# Altium integrated library TI Data Converters Analog to Digital Converter.IntLib: 2198 symbols (part 32 of 164)
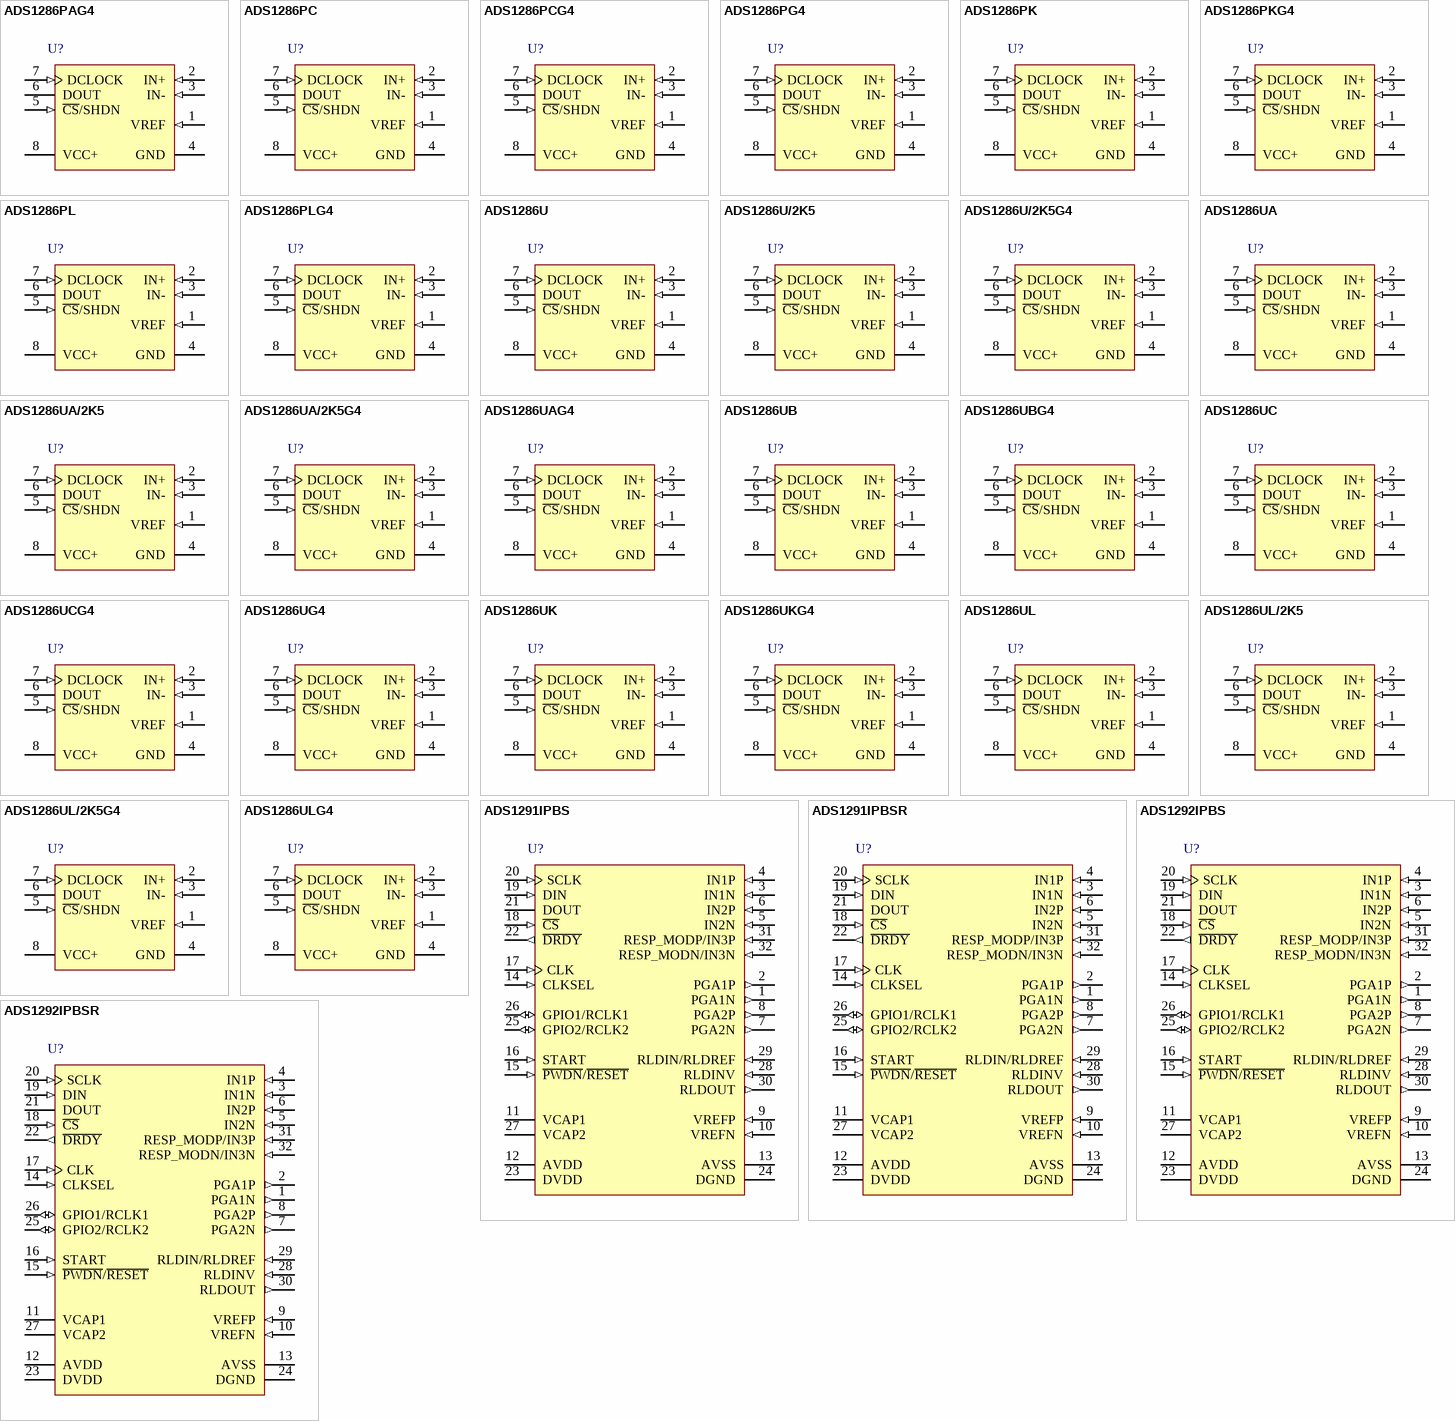
[diagram p157: symbols ADS1286PAG4 to ADS1292IPBSR]

## ADS1286UL/2K5
designator U?
12-Bit Micro Power Sampling ADC, -40 to 85 degC, 8-pin SOIC (D8), Green (RoHS & no Sb/Br); Manufacturer: Texas Instruments; PartNumber: ADS1286UL/2K5; # Input Channels: 1; Analog Voltage AV/DD(Max)(V): 5.25; Analog Voltage AV/DD(Min)(V): 4.5; Architecture: SAR; Interface: Serial SPI; Resolution(Bits): 12; Sample Rate (max)(SPS): 20k; SFDR(dB): 90; SINAD(dB): 72; SubFamily: Precision ADC (<=10MSPS); DatasheetVersion: SBAS053; PackageVersion: 4040047-3/M, 06/2011; PackageReference: D8; PackageDescription: 8-Pin Plastic Small Outline, Body 4.9 x 3.9 mm, Pitch 1.27 mm; Supplier 1: Digi-Key; Supplier Part Number 1: ADS8505IDBR-ND; Digital Supply(Max)(V): 5.25; Digital Supply(Min)(V): 4.5; Eco-Plan: Green (RoHS & no Sb/Br); INL(Max)(+/-LSB): 1; Mounting Technology: Surface Mount; Code_JEDEC: MS-012; ComponentLink1Description: Manufacturer URL; ComponentLink1URL: http://www.ti.com/; ComponentLink2Description: Datasheet; ComponentLink2URL: http://www.ti.com/general/docs/lit/getliterature.tsp?genericPartNumber=ADS1286&fileType=pdf; ComponentLink3Description: Package Specification; ComponentLink3URL: http://www.ti.com/litv/pdf/msoi002j
footprint TI-D8_N (SOIC, 8-Leads, Body 4.9x3.9mm, Pitch 1.27mm, IPC Medium Density)
footprint TI-D8_L (SOIC, 8-Leads, Body 4.9x3.9mm, Pitch 1.27mm, IPC High Density)
footprint TI-D8_M (SOIC, 8-Leads, Body 4.9x3.9mm, Pitch 1.27mm, IPC Low Density)
pins: 1 VREF (in) "Reference input", 2 IN+ (in) "Noninverting input", 3 IN- (in) "Inverting input. Connect to ground or to remote ground sense point.", 4 GND (power) "Ground", 5 ~{CS}/SHDN (in) "Chip select when low; Shutdown mode when high.", 6 DOUT (hiz) "The serial output data word  is comprised of 12 bits of data. In operation, the data are valid on the falling edge of DCLOCK. The second clock pulse after the falling edge of C\S\ enables the serial output. After one null (See Datasheet)", 7 DCLOCK (in) "Data clock synchronizes the serial data transfer and determines conversion speed.", 8 VCC+ (power) "Power supply"

## ADS1286UL/2K5G4
designator U?
12-Bit Micro Power Sampling ADC, -40 to 85 degC, 8-pin SOIC (D8), Green (RoHS & no Sb/Br); Manufacturer: Texas Instruments; PartNumber: ADS1286UL/2K5G4; # Input Channels: 1; Analog Voltage AV/DD(Max)(V): 5.25; Analog Voltage AV/DD(Min)(V): 4.5; Architecture: SAR; Interface: Serial SPI; Resolution(Bits): 12; Sample Rate (max)(SPS): 20k; SFDR(dB): 90; SINAD(dB): 72; SubFamily: Precision ADC (<=10MSPS); DatasheetVersion: SBAS053; PackageVersion: 4040047-3/M, 06/2011; PackageReference: D8; PackageDescription: 8-Pin Plastic Small Outline, Body 4.9 x 3.9 mm, Pitch 1.27 mm; Supplier 1: Digi-Key; Supplier Part Number 1: ADS8505IDBRG4-ND; Digital Supply(Max)(V): 5.25; Digital Supply(Min)(V): 4.5; Eco-Plan: Green (RoHS & no Sb/Br); INL(Max)(+/-LSB): 1; Mounting Technology: Surface Mount; Code_JEDEC: MS-012; ComponentLink1Description: Manufacturer URL; ComponentLink1URL: http://www.ti.com/; ComponentLink2Description: Datasheet; ComponentLink2URL: http://www.ti.com/general/docs/lit/getliterature.tsp?genericPartNumber=ADS1286&fileType=pdf; ComponentLink3Description: Package Specification; ComponentLink3URL: http://www.ti.com/litv/pdf/msoi002j
footprint TI-D8_N (SOIC, 8-Leads, Body 4.9x3.9mm, Pitch 1.27mm, IPC Medium Density)
footprint TI-D8_L (SOIC, 8-Leads, Body 4.9x3.9mm, Pitch 1.27mm, IPC High Density)
footprint TI-D8_M (SOIC, 8-Leads, Body 4.9x3.9mm, Pitch 1.27mm, IPC Low Density)
pins: 1 VREF (in) "Reference input", 2 IN+ (in) "Noninverting input", 3 IN- (in) "Inverting input. Connect to ground or to remote ground sense point.", 4 GND (power) "Ground", 5 ~{CS}/SHDN (in) "Chip select when low; Shutdown mode when high.", 6 DOUT (hiz) "The serial output data word  is comprised of 12 bits of data. In operation, the data are valid on the falling edge of DCLOCK. The second clock pulse after the falling edge of C\S\ enables the serial output. After one null (See Datasheet)", 7 DCLOCK (in) "Data clock synchronizes the serial data transfer and determines conversion speed.", 8 VCC+ (power) "Power supply"

## ADS1286ULG4
designator U?
12-Bit Micro Power Sampling ADC, -40 to 85 degC, 8-pin SOIC (D8), Green (RoHS & no Sb/Br); Manufacturer: Texas Instruments; PartNumber: ADS1286ULG4; # Input Channels: 1; Analog Voltage AV/DD(Max)(V): 5.25; Analog Voltage AV/DD(Min)(V): 4.5; Architecture: SAR; Interface: Serial SPI; Resolution(Bits): 12; Sample Rate (max)(SPS): 20k; SFDR(dB): 90; SINAD(dB): 72; SubFamily: Precision ADC (<=10MSPS); DatasheetVersion: SBAS053; PackageVersion: 4040047-3/M, 06/2011; PackageReference: D8; PackageDescription: 8-Pin Plastic Small Outline, Body 4.9 x 3.9 mm, Pitch 1.27 mm; Supplier 1: Digi-Key; Supplier Part Number 1: 296-18084-5-ND; Digital Supply(Max)(V): 5.25; Digital Supply(Min)(V): 4.5; Eco-Plan: Green (RoHS & no Sb/Br); INL(Max)(+/-LSB): 1; Mounting Technology: Surface Mount; Code_JEDEC: MS-012; ComponentLink1Description: Manufacturer URL; ComponentLink1URL: http://www.ti.com/; ComponentLink2Description: Datasheet; ComponentLink2URL: http://www.ti.com/general/docs/lit/getliterature.tsp?genericPartNumber=ADS1286&fileType=pdf; ComponentLink3Description: Package Specification; ComponentLink3URL: http://www.ti.com/litv/pdf/msoi002j
footprint TI-D8_N (SOIC, 8-Leads, Body 4.9x3.9mm, Pitch 1.27mm, IPC Medium Density)
footprint TI-D8_L (SOIC, 8-Leads, Body 4.9x3.9mm, Pitch 1.27mm, IPC High Density)
footprint TI-D8_M (SOIC, 8-Leads, Body 4.9x3.9mm, Pitch 1.27mm, IPC Low Density)
pins: 1 VREF (in) "Reference input", 2 IN+ (in) "Noninverting input", 3 IN- (in) "Inverting input. Connect to ground or to remote ground sense point.", 4 GND (power) "Ground", 5 ~{CS}/SHDN (in) "Chip select when low; Shutdown mode when high.", 6 DOUT (hiz) "The serial output data word  is comprised of 12 bits of data. In operation, the data are valid on the falling edge of DCLOCK. The second clock pulse after the falling edge of C\S\ enables the serial output. After one null (See Datasheet)", 7 DCLOCK (in) "Data clock synchronizes the serial data transfer and determines conversion speed.", 8 VCC+ (power) "Power supply"

## ADS1291IPBS
designator U?
Complete Low Power Integrated Analog Front End for ECG Application, -40 to 85 degC, 32-pin QFP (PBS32), Green (RoHS & no Sb/Br); Manufacturer: Texas Instruments; PartNumber: ADS1291IPBS; # Input Channels: 1; Analog Voltage AV/DD(Max)(V): 5.25; Analog Voltage AV/DD(Min)(V): 2.7; Architecture: Delta-Sigma; Digital Supply(Max)(V): 3.6; Digital Supply(Min)(V): 1.7; Interface: Serial SPI; Resolution(Bits): 24; SNR(dB): 107; SubFamily: Precision ADC (<=10MSPS); DatasheetVersion: SBAS502B; PackageVersion: 4087735/B, 07/2005; PackageReference: PBS32; PackageDescription: 32-Pin Plastic Flat Pack, Body 5 X 5 mm, Pitch 0.5 mm; Supplier 1: Digi-Key; Supplier Part Number 1: ADS8509IBDBG4-ND; Eco-Plan: Green (RoHS & no Sb/Br); Mounting Technology: Surface Mount; Code_JEDEC: MS-026; ComponentLink1Description: Manufacturer URL; ComponentLink1URL: http://www.ti.com/; ComponentLink2Description: Datasheet; ComponentLink2URL: http://www.ti.com/general/docs/lit/getliterature.tsp?genericPartNumber=ADS1291&fileType=pdf; ComponentLink3Description: Package Specification; ComponentLink3URL: http://www.ti.com/lit/ml/mpqf027a/mpqf027a.pdf
footprint TI-PBS32_N (QFP, 32-Leads, Body 5x5mm, Pitch 0.5mm, IPC Medium Density)
footprint TI-PBS32_L (QFP, 32-Leads, Body 5x5mm, Pitch 0.5mm, IPC High Density)
footprint TI-PBS32_M (QFP, 32-Leads, Body 5x5mm, Pitch 0.5mm, IPC Low Density)
pins: 1 PGA1N (out) "PGA1 inverting output", 2 PGA1P (out) "PGA1 noninverting output", 3 IN1N (in) "Differential analog negative input 1", 4 IN1P (in) "Differential analog positive input 1", 5 IN2N (in) "Differential analog negative input 2", 6 IN2P (in) "Differential analog positive input 2", 7 PGA2N (out) "PGA2 inverting output", 8 PGA2P (out) "PGA2 noninverting output", 9 VREFP (in) "Positive reference voltage", 10 VREFN (in) "Negative reference voltage; must be connected to AVSS", 11 VCAP1 "Analog bypass capacitor", 12 AVDD (power) "Analog supply", 13 AVSS (power) "Analog ground", 14 CLKSEL (in) "Master clock select", 15 ~{PWDN}/~{RESET} (in) "Power-down or system reset; active low", 16 START (in) "Start conversion", 17 CLK (in) "Master clock input", 18 ~{CS} (in) "Chip select", 19 DIN (in) "SPI data in", 20 SCLK (in) "SPI clock", 21 DOUT (hiz) "SPI data out", 22 ~{DRDY} (out) "Data ready; active low", 23 DVDD (power) "Digital power supply", 24 DGND (power) "Digital ground", 25 GPIO2/RCLK2 (io) "General-purpose I/O 2 or resp clock 2 (ADS1292R)", 26 GPIO1/RCLK1 (io) "General-purpose I/O 1 or resp clock 1 (ADS1292R)", 27 VCAP2 "Analog bypass capacitor", 28 RLDINV (in) "Right leg drive inverting input; connect to AVDD if not used", 29 RLDIN/RLDREF (in) "Right leg drive input to MUX or RLD amplifier noninverting input; connect to AVDD if not used", 30 RLDOUT (out) "Right leg drive output", 31 RESP_MODP/IN3P (in) "P-side respiration excitation signal for respiration or auxiliary input 3P", 32 RESP_MODN/IN3N (in) "N-side respiration excitation signal for respiration or auxiliary input 3N"

## ADS1291IPBSR
designator U?
Complete Low Power Integrated Analog Front End for ECG Application, -40 to 85 degC, 32-pin QFP (PBS32), Green (RoHS & no Sb/Br); Manufacturer: Texas Instruments; PartNumber: ADS1291IPBSR; # Input Channels: 1; Analog Voltage AV/DD(Max)(V): 5.25; Analog Voltage AV/DD(Min)(V): 2.7; Architecture: Delta-Sigma; Digital Supply(Max)(V): 3.6; Digital Supply(Min)(V): 1.7; Interface: Serial SPI; Resolution(Bits): 24; SNR(dB): 107; SubFamily: Precision ADC (<=10MSPS); DatasheetVersion: SBAS502B; PackageVersion: 4087735/B, 07/2005; PackageReference: PBS32; PackageDescription: 32-Pin Plastic Flat Pack, Body 5 X 5 mm, Pitch 0.5 mm; Supplier 1: Digi-Key; Supplier Part Number 1: ADS8509IBDBR-ND; Eco-Plan: Green (RoHS & no Sb/Br); Mounting Technology: Surface Mount; Code_JEDEC: MS-026; ComponentLink1Description: Manufacturer URL; ComponentLink1URL: http://www.ti.com/; ComponentLink2Description: Datasheet; ComponentLink2URL: http://www.ti.com/general/docs/lit/getliterature.tsp?genericPartNumber=ADS1291&fileType=pdf; ComponentLink3Description: Package Specification; ComponentLink3URL: http://www.ti.com/lit/ml/mpqf027a/mpqf027a.pdf
footprint TI-PBS32_N (QFP, 32-Leads, Body 5x5mm, Pitch 0.5mm, IPC Medium Density)
footprint TI-PBS32_L (QFP, 32-Leads, Body 5x5mm, Pitch 0.5mm, IPC High Density)
footprint TI-PBS32_M (QFP, 32-Leads, Body 5x5mm, Pitch 0.5mm, IPC Low Density)
pins: 1 PGA1N (out) "PGA1 inverting output", 2 PGA1P (out) "PGA1 noninverting output", 3 IN1N (in) "Differential analog negative input 1", 4 IN1P (in) "Differential analog positive input 1", 5 IN2N (in) "Differential analog negative input 2", 6 IN2P (in) "Differential analog positive input 2", 7 PGA2N (out) "PGA2 inverting output", 8 PGA2P (out) "PGA2 noninverting output", 9 VREFP (in) "Positive reference voltage", 10 VREFN (in) "Negative reference voltage; must be connected to AVSS", 11 VCAP1 "Analog bypass capacitor", 12 AVDD (power) "Analog supply", 13 AVSS (power) "Analog ground", 14 CLKSEL (in) "Master clock select", 15 ~{PWDN}/~{RESET} (in) "Power-down or system reset; active low", 16 START (in) "Start conversion", 17 CLK (in) "Master clock input", 18 ~{CS} (in) "Chip select", 19 DIN (in) "SPI data in", 20 SCLK (in) "SPI clock", 21 DOUT (hiz) "SPI data out", 22 ~{DRDY} (out) "Data ready; active low", 23 DVDD (power) "Digital power supply", 24 DGND (power) "Digital ground", 25 GPIO2/RCLK2 (io) "General-purpose I/O 2 or resp clock 2 (ADS1292R)", 26 GPIO1/RCLK1 (io) "General-purpose I/O 1 or resp clock 1 (ADS1292R)", 27 VCAP2 "Analog bypass capacitor", 28 RLDINV (in) "Right leg drive inverting input; connect to AVDD if not used", 29 RLDIN/RLDREF (in) "Right leg drive input to MUX or RLD amplifier noninverting input; connect to AVDD if not used", 30 RLDOUT (out) "Right leg drive output", 31 RESP_MODP/IN3P (in) "P-side respiration excitation signal for respiration or auxiliary input 3P", 32 RESP_MODN/IN3N (in) "N-side respiration excitation signal for respiration or auxiliary input 3N"

## ADS1292IPBS
designator U?
Complete Low Power Integrated Analog Front End for ECG Application, -40 to 85 degC, 32-pin QFP (PBS32), Green (RoHS & no Sb/Br); Manufacturer: Texas Instruments; PartNumber: ADS1292IPBS; # Input Channels: 2; Analog Voltage AV/DD(Max)(V): 5.25; Analog Voltage AV/DD(Min)(V): 2.7; Architecture: Delta-Sigma; Digital Supply(Max)(V): 3.6; Digital Supply(Min)(V): 1.7; Interface: Serial SPI; Resolution(Bits): 24; Sample Rate (max)(SPS): 8K; SNR(dB): 107; SubFamily: Precision ADC (<=10MSPS); DatasheetVersion: SBAS502B; PackageVersion: 4087735/B, 07/2005; PackageReference: PBS32; PackageDescription: 32-Pin Plastic Flat Pack, Body 5 X 5 mm, Pitch 0.5 mm; Supplier 1: Digi-Key; Supplier Part Number 1: ADS8509IBDBRG4-ND; Eco-Plan: Green (RoHS & no Sb/Br); Mounting Technology: Surface Mount; Code_JEDEC: MS-026; ComponentLink1Description: Manufacturer URL; ComponentLink1URL: http://www.ti.com/; ComponentLink2Description: Datasheet; ComponentLink2URL: http://www.ti.com/general/docs/lit/getliterature.tsp?genericPartNumber=ADS1292&fileType=pdf; ComponentLink3Description: Package Specification; ComponentLink3URL: http://www.ti.com/lit/ml/mpqf027a/mpqf027a.pdf
footprint TI-PBS32_N (QFP, 32-Leads, Body 5x5mm, Pitch 0.5mm, IPC Medium Density)
footprint TI-PBS32_L (QFP, 32-Leads, Body 5x5mm, Pitch 0.5mm, IPC High Density)
footprint TI-PBS32_M (QFP, 32-Leads, Body 5x5mm, Pitch 0.5mm, IPC Low Density)
pins: 1 PGA1N (out) "PGA1 inverting output", 2 PGA1P (out) "PGA1 noninverting output", 3 IN1N (in) "Differential analog negative input 1", 4 IN1P (in) "Differential analog positive input 1", 5 IN2N (in) "Differential analog negative input 2", 6 IN2P (in) "Differential analog positive input 2", 7 PGA2N (out) "PGA2 inverting output", 8 PGA2P (out) "PGA2 noninverting output", 9 VREFP (in) "Positive reference voltage", 10 VREFN (in) "Negative reference voltage; must be connected to AVSS", 11 VCAP1 "Analog bypass capacitor", 12 AVDD (power) "Analog supply", 13 AVSS (power) "Analog ground", 14 CLKSEL (in) "Master clock select", 15 ~{PWDN}/~{RESET} (in) "Power-down or system reset; active low", 16 START (in) "Start conversion", 17 CLK (in) "Master clock input", 18 ~{CS} (in) "Chip select", 19 DIN (in) "SPI data in", 20 SCLK (in) "SPI clock", 21 DOUT (hiz) "SPI data out", 22 ~{DRDY} (out) "Data ready; active low", 23 DVDD (power) "Digital power supply", 24 DGND (power) "Digital ground", 25 GPIO2/RCLK2 (io) "General-purpose I/O 2 or resp clock 2 (ADS1292R)", 26 GPIO1/RCLK1 (io) "General-purpose I/O 1 or resp clock 1 (ADS1292R)", 27 VCAP2 "Analog bypass capacitor", 28 RLDINV (in) "Right leg drive inverting input; connect to AVDD if not used", 29 RLDIN/RLDREF (in) "Right leg drive input to MUX or RLD amplifier noninverting input; connect to AVDD if not used", 30 RLDOUT (out) "Right leg drive output", 31 RESP_MODP/IN3P (in) "P-side respiration excitation signal for respiration or auxiliary input 3P", 32 RESP_MODN/IN3N (in) "N-side respiration excitation signal for respiration or auxiliary input 3N"

## ADS1292IPBSR
designator U?
Complete Low Power Integrated Analog Front End for ECG Application, -40 to 85 degC, 32-pin QFP (PBS32), Green (RoHS & no Sb/Br); Manufacturer: Texas Instruments; PartNumber: ADS1292IPBSR; # Input Channels: 2; Analog Voltage AV/DD(Max)(V): 5.25; Analog Voltage AV/DD(Min)(V): 2.7; Architecture: Delta-Sigma; Digital Supply(Max)(V): 3.6; Digital Supply(Min)(V): 1.7; Interface: Serial SPI; Resolution(Bits): 24; Sample Rate (max)(SPS): 8K; SNR(dB): 107; SubFamily: Precision ADC (<=10MSPS); DatasheetVersion: SBAS502B; PackageVersion: 4087735/B, 07/2005; PackageReference: PBS32; PackageDescription: 32-Pin Plastic Flat Pack, Body 5 X 5 mm, Pitch 0.5 mm; Supplier 1: Digi-Key; Supplier Part Number 1: 296-18086-5-ND; Eco-Plan: Green (RoHS & no Sb/Br); Mounting Technology: Surface Mount; Code_JEDEC: MS-026; ComponentLink1Description: Manufacturer URL; ComponentLink1URL: http://www.ti.com/; ComponentLink2Description: Datasheet; ComponentLink2URL: http://www.ti.com/general/docs/lit/getliterature.tsp?genericPartNumber=ADS1292&fileType=pdf; ComponentLink3Description: Package Specification; ComponentLink3URL: http://www.ti.com/lit/ml/mpqf027a/mpqf027a.pdf
footprint TI-PBS32_N (QFP, 32-Leads, Body 5x5mm, Pitch 0.5mm, IPC Medium Density)
footprint TI-PBS32_L (QFP, 32-Leads, Body 5x5mm, Pitch 0.5mm, IPC High Density)
footprint TI-PBS32_M (QFP, 32-Leads, Body 5x5mm, Pitch 0.5mm, IPC Low Density)
pins: 1 PGA1N (out) "PGA1 inverting output", 2 PGA1P (out) "PGA1 noninverting output", 3 IN1N (in) "Differential analog negative input 1", 4 IN1P (in) "Differential analog positive input 1", 5 IN2N (in) "Differential analog negative input 2", 6 IN2P (in) "Differential analog positive input 2", 7 PGA2N (out) "PGA2 inverting output", 8 PGA2P (out) "PGA2 noninverting output", 9 VREFP (in) "Positive reference voltage", 10 VREFN (in) "Negative reference voltage; must be connected to AVSS", 11 VCAP1 "Analog bypass capacitor", 12 AVDD (power) "Analog supply", 13 AVSS (power) "Analog ground", 14 CLKSEL (in) "Master clock select", 15 ~{PWDN}/~{RESET} (in) "Power-down or system reset; active low", 16 START (in) "Start conversion", 17 CLK (in) "Master clock input", 18 ~{CS} (in) "Chip select", 19 DIN (in) "SPI data in", 20 SCLK (in) "SPI clock", 21 DOUT (hiz) "SPI data out", 22 ~{DRDY} (out) "Data ready; active low", 23 DVDD (power) "Digital power supply", 24 DGND (power) "Digital ground", 25 GPIO2/RCLK2 (io) "General-purpose I/O 2 or resp clock 2 (ADS1292R)", 26 GPIO1/RCLK1 (io) "General-purpose I/O 1 or resp clock 1 (ADS1292R)", 27 VCAP2 "Analog bypass capacitor", 28 RLDINV (in) "Right leg drive inverting input; connect to AVDD if not used", 29 RLDIN/RLDREF (in) "Right leg drive input to MUX or RLD amplifier noninverting input; connect to AVDD if not used", 30 RLDOUT (out) "Right leg drive output", 31 RESP_MODP/IN3P (in) "P-side respiration excitation signal for respiration or auxiliary input 3P", 32 RESP_MODN/IN3N (in) "N-side respiration excitation signal for respiration or auxiliary input 3N"

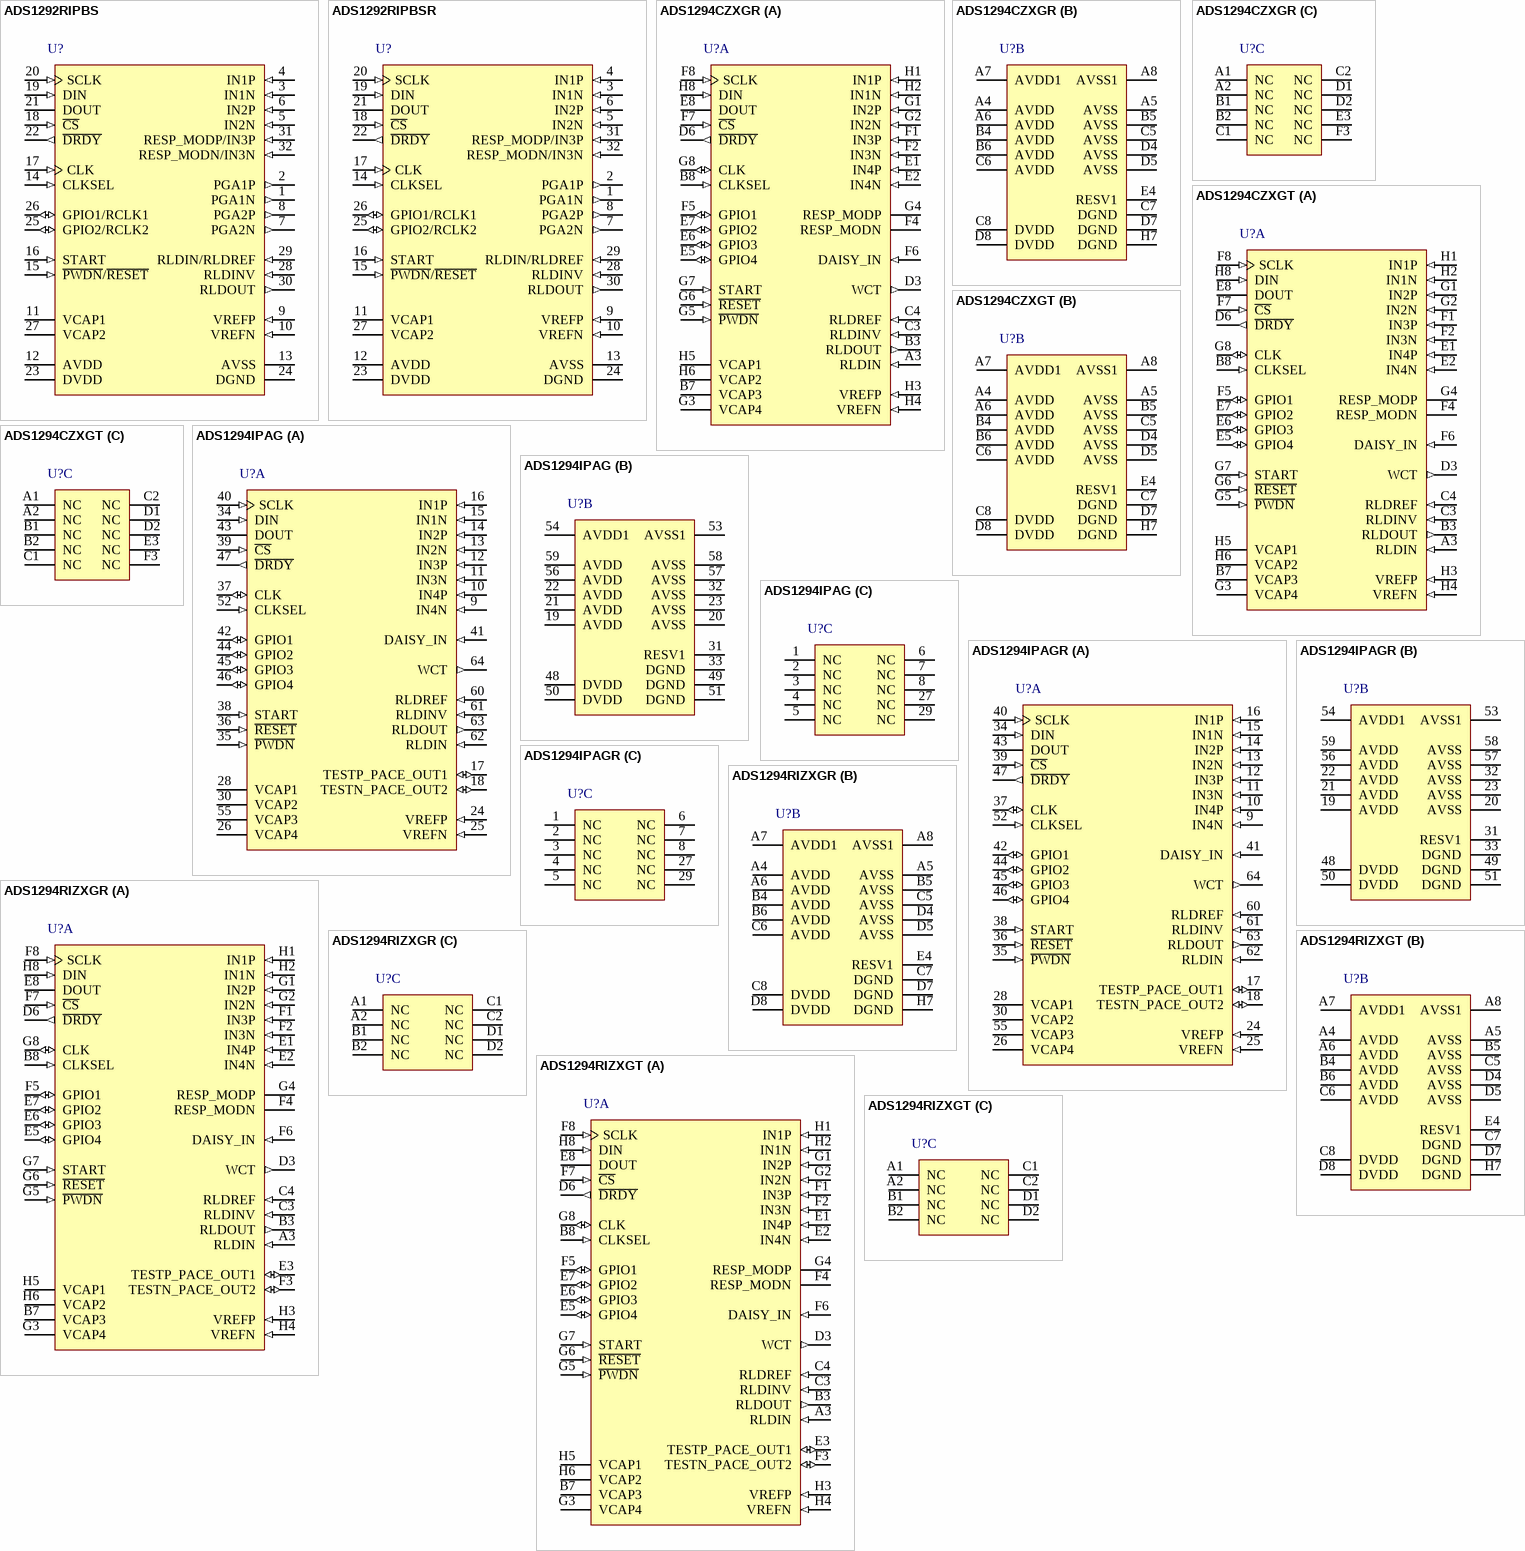
[diagram p26: symbols ADS1292RIPBS to ADS1294RIZXGT]

## ADS1292RIPBS
designator U?
2-Channel, 24-Bit ADC with Integrated Respiration Impedance and ECG Front End, -40 to 85 degC, 32-pin QFP (PBS32), Green (RoHS & no Sb/Br); Manufacturer: Texas Instruments; PartNumber: ADS1292RIPBS; # Input Channels: 2; Analog Voltage AV/DD(Max)(V): 5.25; Analog Voltage AV/DD(Min)(V): 2.7; Architecture: Delta-Sigma; Digital Supply(Max)(V): 3.6; Digital Supply(Min)(V): 1.7; Interface: Serial SPI; Resolution(Bits): 24; Sample Rate (max)(SPS): 8K; SNR(dB): 107; SubFamily: Low Power, 8-Bit, Dual 1.5 GSPS or Single 3.0 GSPS A/D Converter; DatasheetVersion: SBAS502B; PackageVersion: 4087735/B, 07/2005; PackageReference: PBS32; PackageDescription: 32-Pin Plastic Flat Pack, Body 5 X 5 mm, Pitch 0.5 mm; Supplier 1: Digi-Key; Supplier Part Number 1: ADS8509IDBG4-ND; Eco-Plan: Green (RoHS & no Sb/Br); Mounting Technology: Surface Mount; Code_JEDEC: MS-026; ComponentLink1Description: Manufacturer URL; ComponentLink1URL: http://www.ti.com/; ComponentLink2Description: Datasheet; ComponentLink2URL: http://www.ti.com/general/docs/lit/getliterature.tsp?genericPartNumber=ADS1292R&fileType=pdf; ComponentLink3Description: Package Specification; ComponentLink3URL: http://www.ti.com/lit/ml/mpqf027a/mpqf027a.pdf
footprint TI-PBS32_N (QFP, 32-Leads, Body 5x5mm, Pitch 0.5mm, IPC Medium Density)
footprint TI-PBS32_L (QFP, 32-Leads, Body 5x5mm, Pitch 0.5mm, IPC High Density)
footprint TI-PBS32_M (QFP, 32-Leads, Body 5x5mm, Pitch 0.5mm, IPC Low Density)
pins: 1 PGA1N (out) "PGA1 inverting output", 2 PGA1P (out) "PGA1 noninverting output", 3 IN1N (in) "Differential analog negative input 1", 4 IN1P (in) "Differential analog positive input 1", 5 IN2N (in) "Differential analog negative input 2", 6 IN2P (in) "Differential analog positive input 2", 7 PGA2N (out) "PGA2 inverting output", 8 PGA2P (out) "PGA2 noninverting output", 9 VREFP (in) "Positive reference voltage", 10 VREFN (in) "Negative reference voltage; must be connected to AVSS", 11 VCAP1 "Analog bypass capacitor", 12 AVDD (power) "Analog supply", 13 AVSS (power) "Analog ground", 14 CLKSEL (in) "Master clock select", 15 ~{PWDN}/~{RESET} (in) "Power-down or system reset; active low", 16 START (in) "Start conversion", 17 CLK (in) "Master clock input", 18 ~{CS} (in) "Chip select", 19 DIN (in) "SPI data in", 20 SCLK (in) "SPI clock", 21 DOUT (hiz) "SPI data out", 22 ~{DRDY} (out) "Data ready; active low", 23 DVDD (power) "Digital power supply", 24 DGND (power) "Digital ground", 25 GPIO2/RCLK2 (io) "General-purpose I/O 2 or resp clock 2 (ADS1292R)", 26 GPIO1/RCLK1 (io) "General-purpose I/O 1 or resp clock 1 (ADS1292R)", 27 VCAP2 "Analog bypass capacitor", 28 RLDINV (in) "Right leg drive inverting input; connect to AVDD if not used", 29 RLDIN/RLDREF (in) "Right leg drive input to MUX or RLD amplifier noninverting input; connect to AVDD if not used", 30 RLDOUT (out) "Right leg drive output", 31 RESP_MODP/IN3P (in) "P-side respiration excitation signal for respiration or auxiliary input 3P", 32 RESP_MODN/IN3N (in) "N-side respiration excitation signal for respiration or auxiliary input 3N"

## ADS1292RIPBSR
designator U?
2-Channel, 24-Bit ADC with Integrated Respiration Impedance and ECG Front End, -40 to 85 degC, 32-pin QFP (PBS32), Green (RoHS & no Sb/Br); Manufacturer: Texas Instruments; PartNumber: ADS1292RIPBSR; # Input Channels: 2; Analog Voltage AV/DD(Max)(V): 5.25; Analog Voltage AV/DD(Min)(V): 2.7; Architecture: Delta-Sigma; Digital Supply(Max)(V): 3.6; Digital Supply(Min)(V): 1.7; Interface: Serial SPI; Resolution(Bits): 24; Sample Rate (max)(SPS): 8K; SNR(dB): 107; SubFamily: Low Power, 8-Bit, Dual 1.5 GSPS or Single 3.0 GSPS A/D Converter; DatasheetVersion: SBAS502B; PackageVersion: 4087735/B, 07/2005; PackageReference: PBS32; PackageDescription: 32-Pin Plastic Flat Pack, Body 5 X 5 mm, Pitch 0.5 mm; Supplier 1: Digi-Key; Supplier Part Number 1: ADS8509IDBR-ND; Eco-Plan: Green (RoHS & no Sb/Br); Mounting Technology: Surface Mount; Code_JEDEC: MS-026; ComponentLink1Description: Manufacturer URL; ComponentLink1URL: http://www.ti.com/; ComponentLink2Description: Datasheet; ComponentLink2URL: http://www.ti.com/general/docs/lit/getliterature.tsp?genericPartNumber=ADS1292R&fileType=pdf; ComponentLink3Description: Package Specification; ComponentLink3URL: http://www.ti.com/lit/ml/mpqf027a/mpqf027a.pdf
footprint TI-PBS32_N (QFP, 32-Leads, Body 5x5mm, Pitch 0.5mm, IPC Medium Density)
footprint TI-PBS32_L (QFP, 32-Leads, Body 5x5mm, Pitch 0.5mm, IPC High Density)
footprint TI-PBS32_M (QFP, 32-Leads, Body 5x5mm, Pitch 0.5mm, IPC Low Density)
pins: 1 PGA1N (out) "PGA1 inverting output", 2 PGA1P (out) "PGA1 noninverting output", 3 IN1N (in) "Differential analog negative input 1", 4 IN1P (in) "Differential analog positive input 1", 5 IN2N (in) "Differential analog negative input 2", 6 IN2P (in) "Differential analog positive input 2", 7 PGA2N (out) "PGA2 inverting output", 8 PGA2P (out) "PGA2 noninverting output", 9 VREFP (in) "Positive reference voltage", 10 VREFN (in) "Negative reference voltage; must be connected to AVSS", 11 VCAP1 "Analog bypass capacitor", 12 AVDD (power) "Analog supply", 13 AVSS (power) "Analog ground", 14 CLKSEL (in) "Master clock select", 15 ~{PWDN}/~{RESET} (in) "Power-down or system reset; active low", 16 START (in) "Start conversion", 17 CLK (in) "Master clock input", 18 ~{CS} (in) "Chip select", 19 DIN (in) "SPI data in", 20 SCLK (in) "SPI clock", 21 DOUT (hiz) "SPI data out", 22 ~{DRDY} (out) "Data ready; active low", 23 DVDD (power) "Digital power supply", 24 DGND (power) "Digital ground", 25 GPIO2/RCLK2 (io) "General-purpose I/O 2 or resp clock 2 (ADS1292R)", 26 GPIO1/RCLK1 (io) "General-purpose I/O 1 or resp clock 1 (ADS1292R)", 27 VCAP2 "Analog bypass capacitor", 28 RLDINV (in) "Right leg drive inverting input; connect to AVDD if not used", 29 RLDIN/RLDREF (in) "Right leg drive input to MUX or RLD amplifier noninverting input; connect to AVDD if not used", 30 RLDOUT (out) "Right leg drive output", 31 RESP_MODP/IN3P (in) "P-side respiration excitation signal for respiration or auxiliary input 3P", 32 RESP_MODN/IN3N (in) "N-side respiration excitation signal for respiration or auxiliary input 3N"

## ADS1294CZXGR
designator U?
4-Channel, 24-Bit ADC with Integrated ECG Front End, 0 to 70 degC, 64-pin BGA (ZXG64), Green (RoHS & no Sb/Br); Manufacturer: Texas Instruments; PartNumber: ADS1294CZXGR; # Input Channels: 4; Analog Voltage AV/DD(Max)(V): 5.25; Analog Voltage AV/DD(Min)(V): 2.7; Architecture: Delta-Sigma; Digital Supply(Max)(V): 3.6; Digital Supply(Min)(V): 1.65; Interface: Serial SPI; Resolution(Bits): 24; Sample Rate (max)(SPS): 32k; SNR(dB): 112; SubFamily: Low Power, 8-Bit, Dual 1.5 GSPS or Single 3.0 GSPS A/D Converter; DatasheetVersion: SBAS459I; PackageVersion: 4206838/A, 02/2005; PackageReference: ZXG64; PackageDescription: 64-Pin Plastic Ball Grid Array, Body 8 x 8 mm, Pitch 0.8 mm; Supplier 1: Digi-Key; Supplier Part Number 1: ADS8509IDBRG4-ND; Eco-Plan: Green (RoHS & no Sb/Br); Mounting Technology: Surface Mount; ComponentLink1Description: Manufacturer URL; ComponentLink1URL: http://www.ti.com/; ComponentLink2Description: Datasheet; ComponentLink2URL: http://www.ti.com/general/docs/lit/getliterature.tsp?genericPartNumber=ADS1294&fileType=pdf; ComponentLink3Description: Package Specification; ComponentLink3URL: http://www.ti.com/litv/pdf/mpbg581
footprint TI-ZXG64 (BGA, 64-Balls, Body 8x8mm, Pitch 0.8mm)
part A pins: A3 RLDIN (in) "Right leg drive input to MUX", B3 RLDOUT (out) "Right leg drive output", B7 VCAP3 "Analog bypass capacitor; internally generated AVDD + 1.9V.", B8 CLKSEL (in) "Master clock select", C3 RLDINV (in) "Right leg drive inverting input", C4 RLDREF (in) "Right leg drive noninverting input", D3 WCT (out) "Wilson Central Terminal output", D6 ~{DRDY} (out) "Data ready; active low", E1 IN4P (in) "Differential analog positive input 4", E2 IN4N (in) "Differential analog negative input 4", E5 GPIO4 (io) "GPIO4 in normal mode", E6 GPIO3 (io) "GPIO3 in normal mode", E7 GPIO2 (io) "General-purpose input/output pin", E8 DOUT (hiz) "SPI data out", F1 IN3P (in) "Differential analog positive input 3", F2 IN3N (in) "Differential analog negative input 3", F4 RESP_MODN "ADS1294R/6R/8R: modulation clock for respiration measurement, negative side. ADS1294/6/8: leave floating.", F5 GPIO1 (io) "General purpose input/output pin", F6 DAISY_IN (in) "Daisy-chain input; if not used, short to DGND.", F7 ~{CS} (in) "SPI chip select; active low", F8 SCLK (in) "SPI clock", G1 IN2P (in) "Differential analog positive input 2", G2 IN2N (in) "Differential analog negative input 2", G3 VCAP4 "Analog bypass capacitor", G4 RESP_MODP "ADS1294R/6R/8R: modulation clock for respiration measurement, positive side. ADS1294/6/8: leave floating.", G5 ~{PWDN} (in) "Power-down; active low", G6 ~{RESET} (in) "System reset; active low", G7 START (in) "Start conversion", G8 CLK (io) "External Master clock input or internal clock output.", H1 IN1P (in) "Differential analog positive input 1", H2 IN1N (in) "Differential analog negative input 1", H3 VREFP (in) "Positive reference voltage", H4 VREFN (in) "Negative reference voltage", H5 VCAP1 "Analog bypass capacitor", H6 VCAP2 "Analog bypass capacitor", H8 DIN (in) "SPI data in"
part B pins: A4 AVDD (power) "Analog supply", A5 AVSS (power) "Analog ground", A6 AVDD (power) "Analog supply", A7 AVDD1 (power) "Analog supply for charge pump", A8 AVSS1 (power) "Analog ground for charge pump", B4 AVDD (power) "Analog supply", B5 AVSS (power) "Analog ground", B6 AVDD (power) "Analog supply", C5 AVSS (power) "Analog ground", C6 AVDD (power) "Analog supply", C7 DGND (power) "Digital ground", C8 DVDD (power) "Digital power supply", D4 AVSS (power) "Analog ground", D5 AVSS (power) "Analog ground", D7 DGND (power) "Digital ground", D8 DVDD (power) "Digital power supply", E4 RESV1 (power) "Reserved for future use; must tie to logic low (DGND).", H7 DGND (power) "Digital ground"
part C pins: A1 NC "Connect unused terminals to AVDD.", A2 NC "Connect unused terminals to AVDD.", B1 NC "Connect unused terminals to AVDD.", B2 NC "Connect unused terminals to AVDD.", C1 NC "Connect unused terminals to AVDD.", C2 NC "Connect unused terminals to AVDD.", D1 NC "Connect unused terminals to AVDD.", D2 NC "Connect unused terminals to AVDD.", E3 NC "Connect unused terminals to AVDD.", F3 NC "Connect unused terminals to AVDD."

## ADS1294CZXGT
designator U?
4-Channel, 24-Bit ADC with Integrated ECG Front End, 0 to 70 degC, 64-pin BGA (ZXG64), Green (RoHS & no Sb/Br); Manufacturer: Texas Instruments; PartNumber: ADS1294CZXGT; # Input Channels: 4; Analog Voltage AV/DD(Max)(V): 5.25; Analog Voltage AV/DD(Min)(V): 2.7; Architecture: Delta-Sigma; Digital Supply(Max)(V): 3.6; Digital Supply(Min)(V): 1.65; Interface: Serial SPI; Resolution(Bits): 24; Sample Rate (max)(SPS): 32k; SNR(dB): 112; SubFamily: Low Power, 8-Bit, Dual 1.5 GSPS or Single 3.0 GSPS A/D Converter; DatasheetVersion: SBAS459I; PackageVersion: 4206838/A, 02/2005; PackageReference: ZXG64; PackageDescription: 64-Pin Plastic Ball Grid Array, Body 8 x 8 mm, Pitch 0.8 mm; Supplier 1: Digi-Key; Supplier Part Number 1: 296-25898-2-ND; Eco-Plan: Green (RoHS & no Sb/Br); Mounting Technology: Surface Mount; ComponentLink1Description: Manufacturer URL; ComponentLink1URL: http://www.ti.com/; ComponentLink2Description: Datasheet; ComponentLink2URL: http://www.ti.com/general/docs/lit/getliterature.tsp?genericPartNumber=ADS1294&fileType=pdf; ComponentLink3Description: Package Specification; ComponentLink3URL: http://www.ti.com/litv/pdf/mpbg581
footprint TI-ZXG64 (BGA, 64-Balls, Body 8x8mm, Pitch 0.8mm)
part A pins: A3 RLDIN (in) "Right leg drive input to MUX", B3 RLDOUT (out) "Right leg drive output", B7 VCAP3 "Analog bypass capacitor; internally generated AVDD + 1.9V.", B8 CLKSEL (in) "Master clock select", C3 RLDINV (in) "Right leg drive inverting input", C4 RLDREF (in) "Right leg drive noninverting input", D3 WCT (out) "Wilson Central Terminal output", D6 ~{DRDY} (out) "Data ready; active low", E1 IN4P (in) "Differential analog positive input 4", E2 IN4N (in) "Differential analog negative input 4", E5 GPIO4 (io) "GPIO4 in normal mode", E6 GPIO3 (io) "GPIO3 in normal mode", E7 GPIO2 (io) "General-purpose input/output pin", E8 DOUT (hiz) "SPI data out", F1 IN3P (in) "Differential analog positive input 3", F2 IN3N (in) "Differential analog negative input 3", F4 RESP_MODN "ADS1294R/6R/8R: modulation clock for respiration measurement, negative side. ADS1294/6/8: leave floating.", F5 GPIO1 (io) "General purpose input/output pin", F6 DAISY_IN (in) "Daisy-chain input; if not used, short to DGND.", F7 ~{CS} (in) "SPI chip select; active low", F8 SCLK (in) "SPI clock", G1 IN2P (in) "Differential analog positive input 2", G2 IN2N (in) "Differential analog negative input 2", G3 VCAP4 "Analog bypass capacitor", G4 RESP_MODP "ADS1294R/6R/8R: modulation clock for respiration measurement, positive side. ADS1294/6/8: leave floating.", G5 ~{PWDN} (in) "Power-down; active low", G6 ~{RESET} (in) "System reset; active low", G7 START (in) "Start conversion", G8 CLK (io) "External Master clock input or internal clock output.", H1 IN1P (in) "Differential analog positive input 1", H2 IN1N (in) "Differential analog negative input 1", H3 VREFP (in) "Positive reference voltage", H4 VREFN (in) "Negative reference voltage", H5 VCAP1 "Analog bypass capacitor", H6 VCAP2 "Analog bypass capacitor", H8 DIN (in) "SPI data in"
part B pins: A4 AVDD (power) "Analog supply", A5 AVSS (power) "Analog ground", A6 AVDD (power) "Analog supply", A7 AVDD1 (power) "Analog supply for charge pump", A8 AVSS1 (power) "Analog ground for charge pump", B4 AVDD (power) "Analog supply", B5 AVSS (power) "Analog ground", B6 AVDD (power) "Analog supply", C5 AVSS (power) "Analog ground", C6 AVDD (power) "Analog supply", C7 DGND (power) "Digital ground", C8 DVDD (power) "Digital power supply", D4 AVSS (power) "Analog ground", D5 AVSS (power) "Analog ground", D7 DGND (power) "Digital ground", D8 DVDD (power) "Digital power supply", E4 RESV1 (power) "Reserved for future use; must tie to logic low (DGND).", H7 DGND (power) "Digital ground"
part C pins: A1 NC "Connect unused terminals to AVDD.", A2 NC "Connect unused terminals to AVDD.", B1 NC "Connect unused terminals to AVDD.", B2 NC "Connect unused terminals to AVDD.", C1 NC "Connect unused terminals to AVDD.", C2 NC "Connect unused terminals to AVDD.", D1 NC "Connect unused terminals to AVDD.", D2 NC "Connect unused terminals to AVDD.", E3 NC "Connect unused terminals to AVDD.", F3 NC "Connect unused terminals to AVDD."

## ADS1294IPAG
designator U?
4-Channel, 24-Bit ADC with Integrated ECG Front End, -40 to 85 degC, 64-pin QFP (PAG64), Green (RoHS & no Sb/Br); Manufacturer: Texas Instruments; PartNumber: ADS1294IPAG; # Input Channels: 4; Analog Voltage AV/DD(Max)(V): 5.25; Analog Voltage AV/DD(Min)(V): 2.7; Architecture: Delta-Sigma; Digital Supply(Max)(V): 3.6; Digital Supply(Min)(V): 1.65; Interface: Serial SPI; Resolution(Bits): 24; Sample Rate (max)(SPS): 32k; SNR(dB): 112; SubFamily: Low Power, 8-Bit, Dual 1.5 GSPS or Single 3.0 GSPS A/D Converter; DatasheetVersion: SBAS459I; PackageVersion: 4040282/C, 11/1996; PackageReference: PAG64; PackageDescription: 64-Pin Plastic Flat Pack, Body 10 x 10 mm, Pitch 0.50 mm; Supplier 1: Digi-Key; Supplier Part Number 1: ADS1256IDBRG4-ND; Eco-Plan: Green (RoHS & no Sb/Br); Mounting Technology: Surface Mount; Code_JEDEC: MS-026; ComponentLink1Description: Manufacturer URL; ComponentLink1URL: http://www.ti.com/; ComponentLink2Description: Datasheet; ComponentLink2URL: http://www.ti.com/general/docs/lit/getliterature.tsp?genericPartNumber=ADS1294&fileType=pdf; ComponentLink3Description: Package Specification; ComponentLink3URL: http://www.ti.com/lit/ml/mtqf006a/mtqf006a.pdf
footprint TI-PAG64_N (QFP, 64-Leads, Body 10x10mm, Pitch 0.5mm, IPC Medium Density)
footprint TI-PAG64_L (QFP, 64-Leads, Body 10x10mm, Pitch 0.5mm, IPC High Density)
footprint TI-PAG64_M (QFP, 64-Leads, Body 10x10mm, Pitch 0.5mm, IPC Low Density)
part A pins: 9 IN4N (in) "Differential analog negative input 4", 10 IN4P (in) "Differential analog positive input 4", 11 IN3N (in) "Differential analog negative input 3", 12 IN3P (in) "Differential analog positive input 3", 13 IN2N (in) "Differential analog negative input 2", 14 IN2P (in) "Differential analog positive input 2", 15 IN1N (in) "Differential analog negative input 1", 16 IN1P (in) "Differential analog positive input 1", 17 TESTP_PACE_OUT1 (io) "Internal test signal/single-ended buffer output based on register settings", 18 TESTN_PACE_OUT2 (io) "Internal test signal/single-ended buffer output based on register settings", 24 VREFP (in) "Positive reference voltage", 25 VREFN (in) "Negative reference voltage", 26 VCAP4 "Analog bypass capacitor", 28 VCAP1 "Analog bypass capacitor", 30 VCAP2 "Analog bypass capacitor", 34 DIN (in) "SPI data in", 35 ~{PWDN} (in) "Power-down; active low", 36 ~{RESET} (in) "System reset; active low", 37 CLK (io) "External Master clock input or internal clock output.", 38 START (in) "Start conversion", 39 ~{CS} (in) "SPI chip select; active low", 40 SCLK (in) "SPI clock", 41 DAISY_IN (in) "Daisy-chain input; if not used, short to DGND.", 42 GPIO1 (io) "General-purpose input/output pin", 43 DOUT (hiz) "SPI data out", 44 GPIO2 (io) "General-purpose input/output pin", 45 GPIO3 (io) "General-purpose input/output pin", 46 GPIO4 (io) "General-purpose input/output pin", 47 ~{DRDY} (out) "Data ready; active low", 52 CLKSEL (in) "Master clock select", 55 VCAP3 "Analog bypass capacitor; internally generated AVDD + 1.9V.", 60 RLDREF (in) "Right leg drive noninverting input", 61 RLDINV (in) "Right leg drive inverting input", 62 RLDIN (in) "Right leg drive input to MUX", 63 RLDOUT (out) "Right leg drive output", 64 WCT (out) "Wilson Central Terminal output"
part B pins: 19 AVDD (power) "Analog supply", 20 AVSS (power) "Analog ground", 21 AVDD (power) "Analog supply", 22 AVDD (power) "Analog supply", 23 AVSS (power) "Analog ground", 31 RESV1 (power) "Reserved for future use; must tie to logic low (DGND).", 32 AVSS (power) "Analog ground", 33 DGND (power) "Digital ground", 48 DVDD (power) "Digital power supply", 49 DGND (power) "Digital ground", 50 DVDD (power) "Digital power supply", 51 DGND (power) "Digital ground", 53 AVSS1 (power) "Analog ground", 54 AVDD1 (power) "Analog supply", 56 AVDD (power) "Analog supply", 57 AVSS (power) "Analog ground", 58 AVSS (power) "Analog ground", 59 AVDD (power) "Analog supply"
part C pins: 1 NC "Connect unused terminals to AVDD.", 2 NC "Connect unused terminals to AVDD.", 3 NC "Connect unused terminals to AVDD.", 4 NC "Connect unused terminals to AVDD.", 5 NC "Connect unused terminals to AVDD.", 6 NC "Connect unused terminals to AVDD.", 7 NC "Connect unused terminals to AVDD.", 8 NC "Connect unused terminals to AVDD.", 27 NC "No connection", 29 NC "No connection"

## ADS1294IPAGR
designator U?
4-Channel, 24-Bit ADC with Integrated ECG Front End, -40 to 85 degC, 64-pin QFP (PAG64), Green (RoHS & no Sb/Br); Manufacturer: Texas Instruments; PartNumber: ADS1294IPAGR; # Input Channels: 4; Analog Voltage AV/DD(Max)(V): 5.25; Analog Voltage AV/DD(Min)(V): 2.7; Architecture: Delta-Sigma; Digital Supply(Max)(V): 3.6; Digital Supply(Min)(V): 1.65; Interface: Serial SPI; Resolution(Bits): 24; Sample Rate (max)(SPS): 32k; SNR(dB): 112; SubFamily: Low Power, 8-Bit, Dual 1.5 GSPS or Single 3.0 GSPS A/D Converter; DatasheetVersion: SBAS459I; PackageVersion: 4040282/C, 11/1996; PackageReference: PAG64; PackageDescription: 64-Pin Plastic Flat Pack, Body 10 x 10 mm, Pitch 0.50 mm; Supplier 1: Digi-Key; Supplier Part Number 1: 296-15208-2-ND; Eco-Plan: Green (RoHS & no Sb/Br); Mounting Technology: Surface Mount; Code_JEDEC: MS-026; ComponentLink1Description: Manufacturer URL; ComponentLink1URL: http://www.ti.com/; ComponentLink2Description: Datasheet; ComponentLink2URL: http://www.ti.com/general/docs/lit/getliterature.tsp?genericPartNumber=ADS1294&fileType=pdf; ComponentLink3Description: Package Specification; ComponentLink3URL: http://www.ti.com/lit/ml/mtqf006a/mtqf006a.pdf
footprint TI-PAG64_N (QFP, 64-Leads, Body 10x10mm, Pitch 0.5mm, IPC Medium Density)
footprint TI-PAG64_L (QFP, 64-Leads, Body 10x10mm, Pitch 0.5mm, IPC High Density)
footprint TI-PAG64_M (QFP, 64-Leads, Body 10x10mm, Pitch 0.5mm, IPC Low Density)
part A pins: 9 IN4N (in) "Differential analog negative input 4", 10 IN4P (in) "Differential analog positive input 4", 11 IN3N (in) "Differential analog negative input 3", 12 IN3P (in) "Differential analog positive input 3", 13 IN2N (in) "Differential analog negative input 2", 14 IN2P (in) "Differential analog positive input 2", 15 IN1N (in) "Differential analog negative input 1", 16 IN1P (in) "Differential analog positive input 1", 17 TESTP_PACE_OUT1 (io) "Internal test signal/single-ended buffer output based on register settings", 18 TESTN_PACE_OUT2 (io) "Internal test signal/single-ended buffer output based on register settings", 24 VREFP (in) "Positive reference voltage", 25 VREFN (in) "Negative reference voltage", 26 VCAP4 "Analog bypass capacitor", 28 VCAP1 "Analog bypass capacitor", 30 VCAP2 "Analog bypass capacitor", 34 DIN (in) "SPI data in", 35 ~{PWDN} (in) "Power-down; active low", 36 ~{RESET} (in) "System reset; active low", 37 CLK (io) "External Master clock input or internal clock output.", 38 START (in) "Start conversion", 39 ~{CS} (in) "SPI chip select; active low", 40 SCLK (in) "SPI clock", 41 DAISY_IN (in) "Daisy-chain input; if not used, short to DGND.", 42 GPIO1 (io) "General-purpose input/output pin", 43 DOUT (hiz) "SPI data out", 44 GPIO2 (io) "General-purpose input/output pin", 45 GPIO3 (io) "General-purpose input/output pin", 46 GPIO4 (io) "General-purpose input/output pin", 47 ~{DRDY} (out) "Data ready; active low", 52 CLKSEL (in) "Master clock select", 55 VCAP3 "Analog bypass capacitor; internally generated AVDD + 1.9V.", 60 RLDREF (in) "Right leg drive noninverting input", 61 RLDINV (in) "Right leg drive inverting input", 62 RLDIN (in) "Right leg drive input to MUX", 63 RLDOUT (out) "Right leg drive output", 64 WCT (out) "Wilson Central Terminal output"
part B pins: 19 AVDD (power) "Analog supply", 20 AVSS (power) "Analog ground", 21 AVDD (power) "Analog supply", 22 AVDD (power) "Analog supply", 23 AVSS (power) "Analog ground", 31 RESV1 (power) "Reserved for future use; must tie to logic low (DGND).", 32 AVSS (power) "Analog ground", 33 DGND (power) "Digital ground", 48 DVDD (power) "Digital power supply", 49 DGND (power) "Digital ground", 50 DVDD (power) "Digital power supply", 51 DGND (power) "Digital ground", 53 AVSS1 (power) "Analog ground", 54 AVDD1 (power) "Analog supply", 56 AVDD (power) "Analog supply", 57 AVSS (power) "Analog ground", 58 AVSS (power) "Analog ground", 59 AVDD (power) "Analog supply"
part C pins: 1 NC "Connect unused terminals to AVDD.", 2 NC "Connect unused terminals to AVDD.", 3 NC "Connect unused terminals to AVDD.", 4 NC "Connect unused terminals to AVDD.", 5 NC "Connect unused terminals to AVDD.", 6 NC "Connect unused terminals to AVDD.", 7 NC "Connect unused terminals to AVDD.", 8 NC "Connect unused terminals to AVDD.", 27 NC "No connection", 29 NC "No connection"

## ADS1294RIZXGR
designator U?
4-Channel, 24-Bit ADC with Integrated Respiration Impedance and ECG Front End, -40 to 85 degC, 64-pin BGA (ZXG64), Green (RoHS & no Sb/Br); Manufacturer: Texas Instruments; PartNumber: ADS1294RIZXGR; # Input Channels: 4; Analog Voltage AV/DD(Max)(V): 5.25; Analog Voltage AV/DD(Min)(V): 2.7; Architecture: Delta-Sigma; Digital Supply(Max)(V): 3.6; Digital Supply(Min)(V): 1.65; Interface: Serial SPI; Resolution(Bits): 24; Sample Rate (max)(SPS): 32k; SNR(dB): 112; SubFamily: Low Power, 8-Bit, Dual 1.5 GSPS or Single 3.0 GSPS A/D Converter; DatasheetVersion: SBAS459I; PackageVersion: 4206838/A, 02/2005; PackageReference: ZXG64; PackageDescription: 64-Pin Plastic Ball Grid Array, Body 8 x 8 mm, Pitch 0.8 mm; Supplier 1: Digi-Key; Supplier Part Number 1: ADS1256IDBTG4-ND; Eco-Plan: Green (RoHS & no Sb/Br); Mounting Technology: Surface Mount; ComponentLink1Description: Manufacturer URL; ComponentLink1URL: http://www.ti.com/; ComponentLink2Description: Datasheet; ComponentLink2URL: http://www.ti.com/general/docs/lit/getliterature.tsp?genericPartNumber=ADS1294R&fileType=pdf; ComponentLink3Description: Package Specification; ComponentLink3URL: http://www.ti.com/litv/pdf/mpbg581
footprint TI-ZXG64 (BGA, 64-Balls, Body 8x8mm, Pitch 0.8mm)
part A pins: A3 RLDIN (in) "Right leg drive input to MUX", B3 RLDOUT (out) "Right leg drive output", B7 VCAP3 "Analog bypass capacitor; internally generated AVDD + 1.9V.", B8 CLKSEL (in) "Master clock select", C3 RLDINV (in) "Right leg drive inverting input", C4 RLDREF (in) "Right leg drive noninverting input", D3 WCT (out) "Wilson Central Terminal output", D6 ~{DRDY} (out) "Data ready; active low", E1 IN4P (in) "Differential analog positive input 4", E2 IN4N (in) "Differential analog negative input 4", E3 TESTP_PACE_OUT1 (io) "Internal test signal/single-ended buffer output based on register settings", E5 GPIO4 (io) "GPIO4 in normal mode", E6 GPIO3 (io) "GPIO3 in normal mode", E7 GPIO2 (io) "General-purpose input/output pin", E8 DOUT (hiz) "SPI data out", F1 IN3P (in) "Differential analog positive input 3", F2 IN3N (in) "Differential analog negative input 3", F3 TESTN_PACE_OUT2 (io) "Internal test signal/single-ended buffer output based on register settings", F4 RESP_MODN "ADS1294R/6R/8R: modulation clock for respiration measurement, negative side. ADS1294/6/8: leave floating.", F5 GPIO1 (io) "General purpose input/output pin", F6 DAISY_IN (in) "Daisy-chain input; if not used, short to DGND.", F7 ~{CS} (in) "SPI chip select; active low", F8 SCLK (in) "SPI clock", G1 IN2P (in) "Differential analog positive input 2", G2 IN2N (in) "Differential analog negative input 2", G3 VCAP4 "Analog bypass capacitor", G4 RESP_MODP "ADS1294R/6R/8R: modulation clock for respiration measurement, positive side. ADS1294/6/8: leave floating.", G5 ~{PWDN} (in) "Power-down; active low", G6 ~{RESET} (in) "System reset; active low", G7 START (in) "Start conversion", G8 CLK (io) "External Master clock input or internal clock output.", H1 IN1P (in) "Differential analog positive input 1", H2 IN1N (in) "Differential analog negative input 1", H3 VREFP (in) "Positive reference voltage", H4 VREFN (in) "Negative reference voltage", H5 VCAP1 "Analog bypass capacitor", H6 VCAP2 "Analog bypass capacitor", H8 DIN (in) "SPI data in"
part B pins: A4 AVDD (power) "Analog supply", A5 AVSS (power) "Analog ground", A6 AVDD (power) "Analog supply", A7 AVDD1 (power) "Analog supply for charge pump", A8 AVSS1 (power) "Analog ground for charge pump", B4 AVDD (power) "Analog supply", B5 AVSS (power) "Analog ground", B6 AVDD (power) "Analog supply", C5 AVSS (power) "Analog ground", C6 AVDD (power) "Analog supply", C7 DGND (power) "Digital ground", C8 DVDD (power) "Digital power supply", D4 AVSS (power) "Analog ground", D5 AVSS (power) "Analog ground", D7 DGND (power) "Digital ground", D8 DVDD (power) "Digital power supply", E4 RESV1 (power) "Reserved for future use; must tie to logic low (DGND).", H7 DGND (power) "Digital ground"
part C pins: A1 NC "Connect unused terminals to AVDD.", A2 NC "Connect unused terminals to AVDD.", B1 NC "Connect unused terminals to AVDD.", B2 NC "Connect unused terminals to AVDD.", C1 NC "Connect unused terminals to AVDD.", C2 NC "Connect unused terminals to AVDD.", D1 NC "Connect unused terminals to AVDD.", D2 NC "Connect unused terminals to AVDD."